# EAGLE library part TCM8230MD (library tcm82x0md)
TCM8240MD 0.3 Mega pixel sensor chip mfg TOSHIBA symbol/package by Kyrre Aalerud Note: Chip has pads for socket mounting on underside. Do not route anything under the chip unless you insulate it.
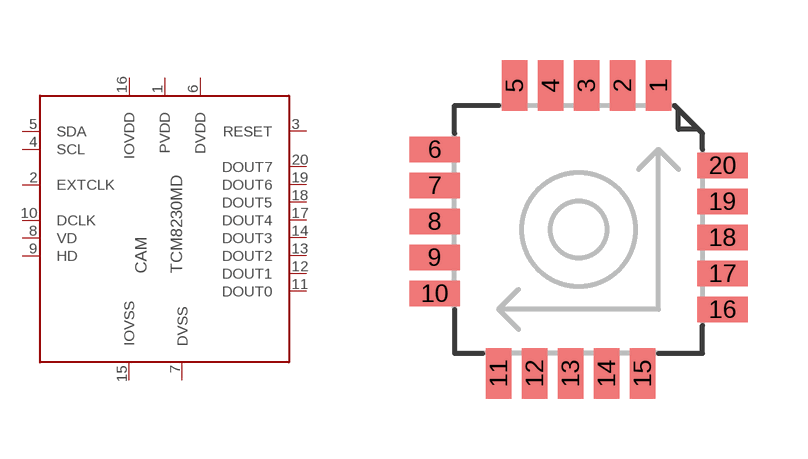
[diagram p0: symbol with the pads of TCM8230MD; footprint TCM8230MD]

Designator prefix CAM

## TCM8230MD  [TCM8230MD]
1  PVDD  pwr
2  EXTCLK  in
3  RESET  in
4  SCL  in
5  SDA
6  DVDD  pwr
7  DVSS  sup
8  VD  out
9  HD  out
10  DCLK  out
11  DOUT0  out
12  DOUT1  out
13  DOUT2  out
14  DOUT3  out
15  IOVSS  sup
16  IOVDD  pwr
17  DOUT4  out
18  DOUT5  out
19  DOUT6  out
20  DOUT7  out

## Footprint TCM8230MD (pad centres in mm)
smd 0.635 x 1.27: 1 2,3.6; 2 1.1,3.6; 3 0.2,3.6; 4 -0.7,3.6; 5 -1.6,3.6; 11 -2,-3.6; 12 -1.1,-3.6; 13 -0.2,-3.6; 14 0.7,-3.6; 15 1.6,-3.6
smd 1.27 x 0.635: 6 -3.6,2; 7 -3.6,1.1; 8 -3.6,0.2; 9 -3.6,-0.7; 10 -3.6,-1.6; 16 3.6,-2; 17 3.6,-1.1; 18 3.6,-0.2; 19 3.6,0.7; 20 3.6,1.6